# EAGLE library part DF3-10S (library con-hirose)
Single row female connector 2mm 10 way
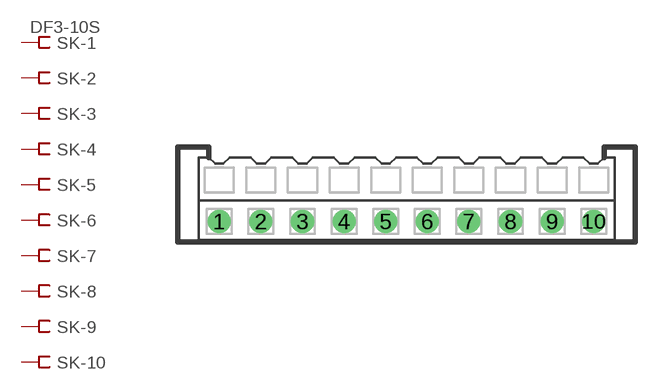
[diagram p8: symbol with the pads of DF3S-10; footprint DF3S-10]

Designator prefix SK; gates -1=FV -2=F -3=F -4=F -5=F -6=F -7=F -8=F -9=F -10=F

## DF3-10S  [DF3S-10]
1  -1:S  pas
2  -2:S  pas
3  -3:S  pas
4  -4:S  pas
5  -5:S  pas
6  -6:S  pas
7  -7:S  pas
8  -8:S  pas
9  -9:S  pas
10  -10:S  pas

## Footprint DF3S-10 (pad centres in mm)
Single row connector 2mm 10 way
drill 0.6 round: 1 -9,-1; 2 -7,-1; 3 -5,-1; 4 -3,-1; 5 -1,-1; 6 1,-1; 7 3,-1; 8 5,-1; 9 7,-1; 10 9,-1